# EAGLE library part CON_SUBD15F_HD (library Radicon_connectors)
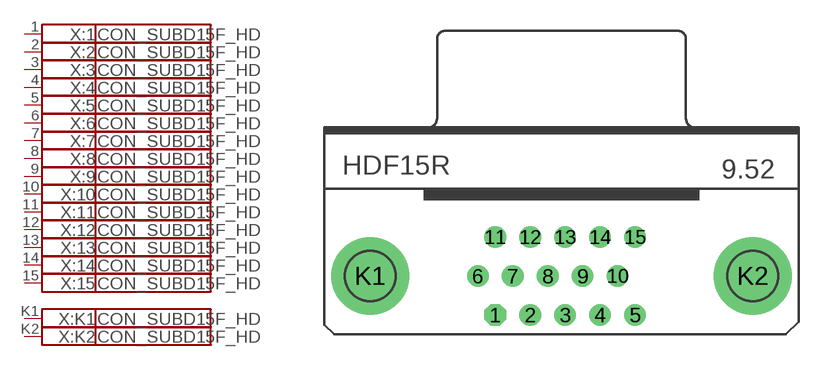
[diagram p6: symbol with the pads of HDF15H; footprint HDF15H]

Designator prefix X; gates :1=CON_PIN :2=CON_PIN :3=CON_PIN :4=CON_PIN :5=CON_PIN :6=CON_PIN :7=CON_PIN :8=CON_PIN :9=CON_PIN :10=CON_PIN :11=CON_PIN :12=CON_PIN :13=CON_PIN :14=CON_PIN :15=CON_PIN :K1=CON_PIN :K2=CON_PIN

## CON_SUBD15F_HD  [HDF15H]
1  :1:1
2  :2:1
3  :3:1
4  :4:1
5  :5:1
6  :6:1
7  :7:1
8  :8:1
9  :9:1
10  :10:1
11  :11:1
12  :12:1
13  :13:1
14  :14:1
15  :15:1
K1  :K1:1
K2  :K2:1

## Footprint HDF15H (pad centres in mm)
SUB-D
drill 0.9 octagon: 1 -4.329,-2.54
drill 0.9: 2 -2.043,-2.54; 3 0.243,-2.54; 4 2.529,-2.54; 5 4.815,-2.54; 6 -5.472,0; 7 -3.186,0; 8 -0.9,0; 9 1.386,0; 10 3.672,0; 11 -4.329,2.54; 12 -2.043,2.54; 13 0.243,2.54; 14 2.529,2.54; 15 4.815,2.54
drill 3.302 pad 5.08: K1 -12.5,0; K2 12.5,0